# Altium footprint library PAD_SMD_ROUNDED.PcbLib: 1 footprints
Each footprint in its own frame and in the unit in brackets; x right, y up, seen from the top. Pads: shape width x height; smd on the part's side, far side on the other; paste and mask are expansions set on the pad; w line width, h text height; cw(c..) or ccw(c..) is an arc to the next point about the centre after c.
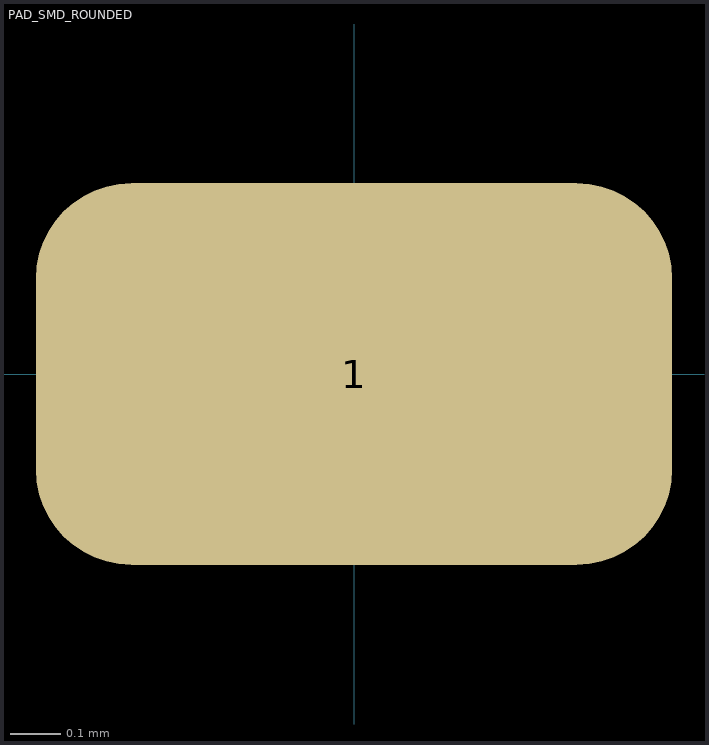
[diagram p0: the footprint, top view; thin cyan lines are the x and y axes]

## PAD_SMD_ROUNDED [mil] "SMD rounded rectangular pad test"
pads (1):
  rrect50% 50x30 smd: 1(0,0)